# Altium integrated library TP4056.IntLib: 1 symbol
Pins are listed as number, name and electrical type; pins without a type are passive.

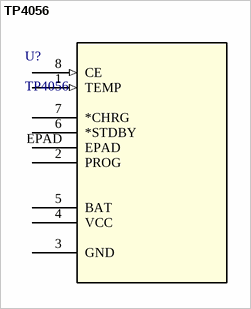
[diagram p0: symbol TP4056]

## TP4056
designator U?
Description; Manufacturer_Name: TPOWER; Copyright: Copyright (C) 2025 Ultra Librarian. All rights reserved.; Manufacturer_Part_Number: TP4056; RefDes: RefDes; Type: Type
footprint SOP8-PP_TPW
pins: 1 TEMP (in), 2 PROG, 3 GND (power), 4 VCC (power), 5 BAT (power), 6 *STDBY, 7 *CHRG, 8 CE (in), EPAD